# Altium footprint library DISCRETE_T1.PcbLib: 293 footprints (part 12 of 19)
Each footprint in its own frame and in the unit in brackets; x right, y up, seen from the top. Pads: shape width x height; smd on the part's side, far side on the other; paste and mask are expansions set on the pad; w line width, h text height; cw(c..) or ccw(c..) is an arc to the next point about the centre after c.
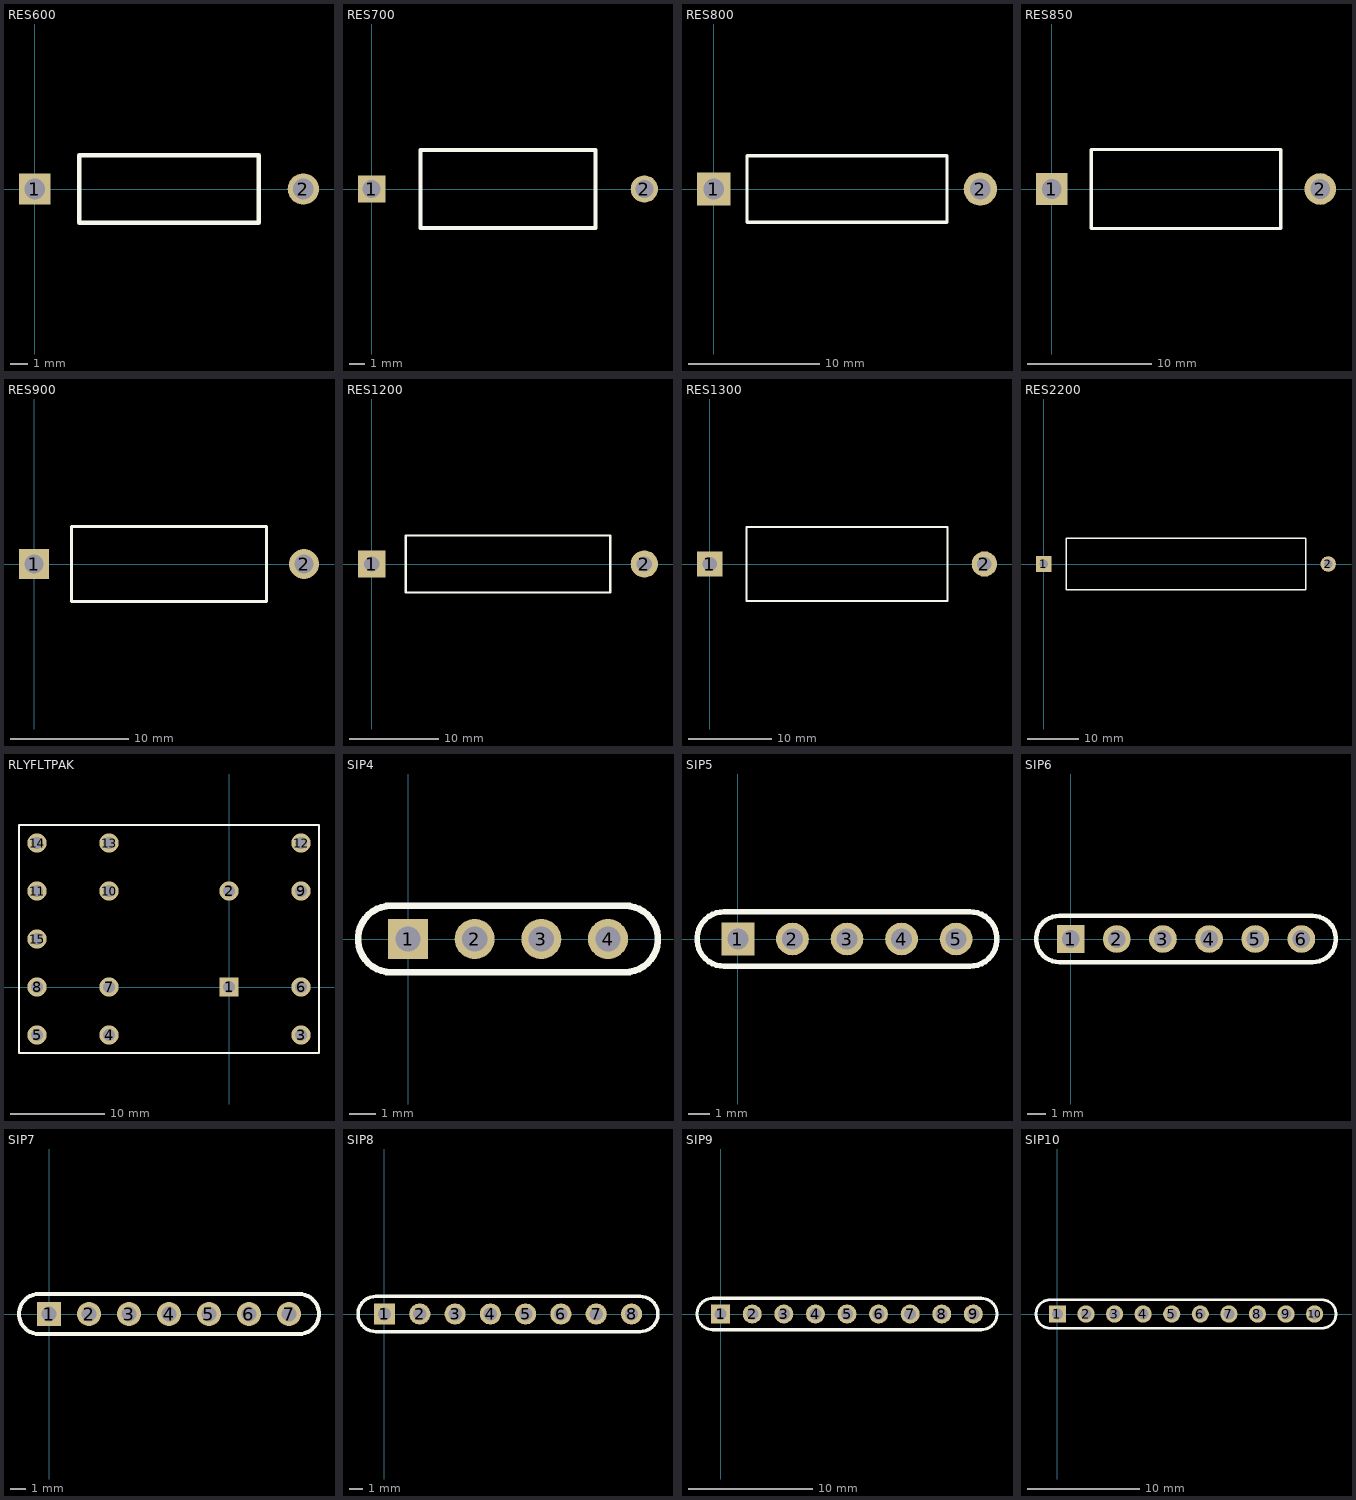
[diagram p11: the footprints below, top view; thin cyan lines are the x and y axes]

## RES600 [mil]
pads (2):
  rect 70x70 hole 46: 1(0,0)
  round 70 hole 46: 2(600,0)
Top Overlay:
  lines w10: 100,-75 100,75 500,75 500,-75 100,-75

## RES700 [mil]
pads (2):
  rect 70x70 hole 46: 1(0,0)
  round 70 hole 46: 2(700,0)
Top Overlay:
  lines w10: 125,-100 125,100 575,100 575,-100 125,-100

## RES800 [mil]
pads (2):
  rect 100x100 hole 62: 1(0,0)
  round 100 hole 62: 2(800,0)
Top Overlay:
  lines w10: 100,-100 100,100 700,100 700,-100 100,-100

## RES850 [mil]
pads (2):
  rect 100x100 hole 62: 1(0,0)
  round 100 hole 62: 2(850,0)
Top Overlay:
  lines w10: 125,-125 125,125 725,125 725,-125 125,-125

## RES900 [mil]
pads (2):
  rect 100x100 hole 62: 1(0,0)
  round 100 hole 62: 2(900,0)
Top Overlay:
  lines w10: 125,-125 125,125 775,125 775,-125 125,-125

## RES1200 [mil]
pads (2):
  rect 120x120 hole 68: 1(0,0)
  round 120 hole 68: 2(1200,0)
Top Overlay:
  lines w10: 150,-125 150,125 1050,125 1050,-125 150,-125

## RES1300 [mil]
pads (2):
  rect 120x120 hole 68: 1(0,0)
  round 120 hole 68: 2(1300,0)
Top Overlay:
  lines w10: 175,-175 175,175 1125,175 1125,-175 175,-175

## RES2200 [mil]
pads (2):
  rect 120x120 hole 68: 1(0,0)
  round 120 hole 68: 2(2200,0)
Top Overlay:
  lines w10: 175,-200 175,200 2025,200 2025,-200 175,-200

## RLYFLTPAK [mil]
pads (15):
  rect 80x80 hole 52: 1(0,0)
  round 80 hole 52: 2(0,400) 3(300,-200) 4(-500,-200) 5(-800,-200) 6(300,0) 7(-500,0) 8(-800,0) 9(300,400) 10(-500,400) 11(-800,400) 12(300,600) 13(-500,600) 14(-800,600) 15(-800,200)
Top Overlay:
  lines w10: -875,-275 375,-275 375,675 -875,675 -875,-275

## SIP4 [mil]
pads (4):
  rect 60x60 hole 38: 1(0,0)
  round 60 hole 38: 2(100,0) 3(200,0) 4(300,0)
Top Overlay:
  lines w10: -25,-50 cw(c-25,0) -25,50 325,50 cw(c325,0) 325,-50 -25,-50

## SIP5 [mil]
pads (5):
  rect 60x60 hole 38: 1(0,0)
  round 60 hole 38: 2(100,0) 3(200,0) 4(300,0) 5(400,0)
Top Overlay:
  lines w10: -25,-50 cw(c-25,0) -25,50 425,50 cw(c425,0) 425,-50 -25,-50

## SIP6 [mil]
pads (6):
  rect 60x60 hole 38: 1(0,0)
  round 60 hole 38: 2(100,0) 3(200,0) 4(300,0) 5(400,0) 6(500,0)
Top Overlay:
  lines w10: -25,-50 cw(c-25,0) -25,50 525,50 cw(c525,0) 525,-50 -25,-50

## SIP7 [mil]
pads (7):
  rect 60x60 hole 38: 1(0,0)
  round 60 hole 38: 2(100,0) 3(200,0) 4(300,0) 5(400,0) 6(500,0) 7(600,0)
Top Overlay:
  lines w10: -25,-50 cw(c-25,0) -25,50 625,50 cw(c625,0) 625,-50 -25,-50

## SIP8 [mil]
pads (8):
  rect 60x60 hole 38: 1(0,0)
  round 60 hole 38: 2(100,0) 3(200,0) 4(300,0) 5(400,0) 6(500,0) 7(600,0) 8(700,0)
Top Overlay:
  lines w10: -25,-50 cw(c-25,0) -25,50 725,50 cw(c725,0) 725,-50 -25,-50

## SIP9 [mil]
pads (9):
  rect 60x60 hole 38: 1(0,0)
  round 60 hole 38: 2(100,0) 3(200,0) 4(300,0) 5(400,0) 6(500,0) 7(600,0) 8(700,0) 9(800,0)
Top Overlay:
  lines w10: -25,-50 cw(c-25,0) -25,50 825,50 cw(c825,0) 825,-50 -25,-50

## SIP10 [mil]
pads (10):
  rect 60x60 hole 38: 1(0,0)
  round 60 hole 38: 2(100,0) 3(200,0) 4(300,0) 5(400,0) 6(500,0) 7(600,0) 8(700,0) 9(800,0) 10(900,0)
Top Overlay:
  lines w10: -25,-50 cw(c-25,0) -25,50 925,50 cw(c925,0) 925,-50 -25,-50